# Altium schematic symbol library RaspComputeModule_4_IO.SCHLIB: 40 symbols
Pins are listed as number, name and electrical type; pins without a type are passive.

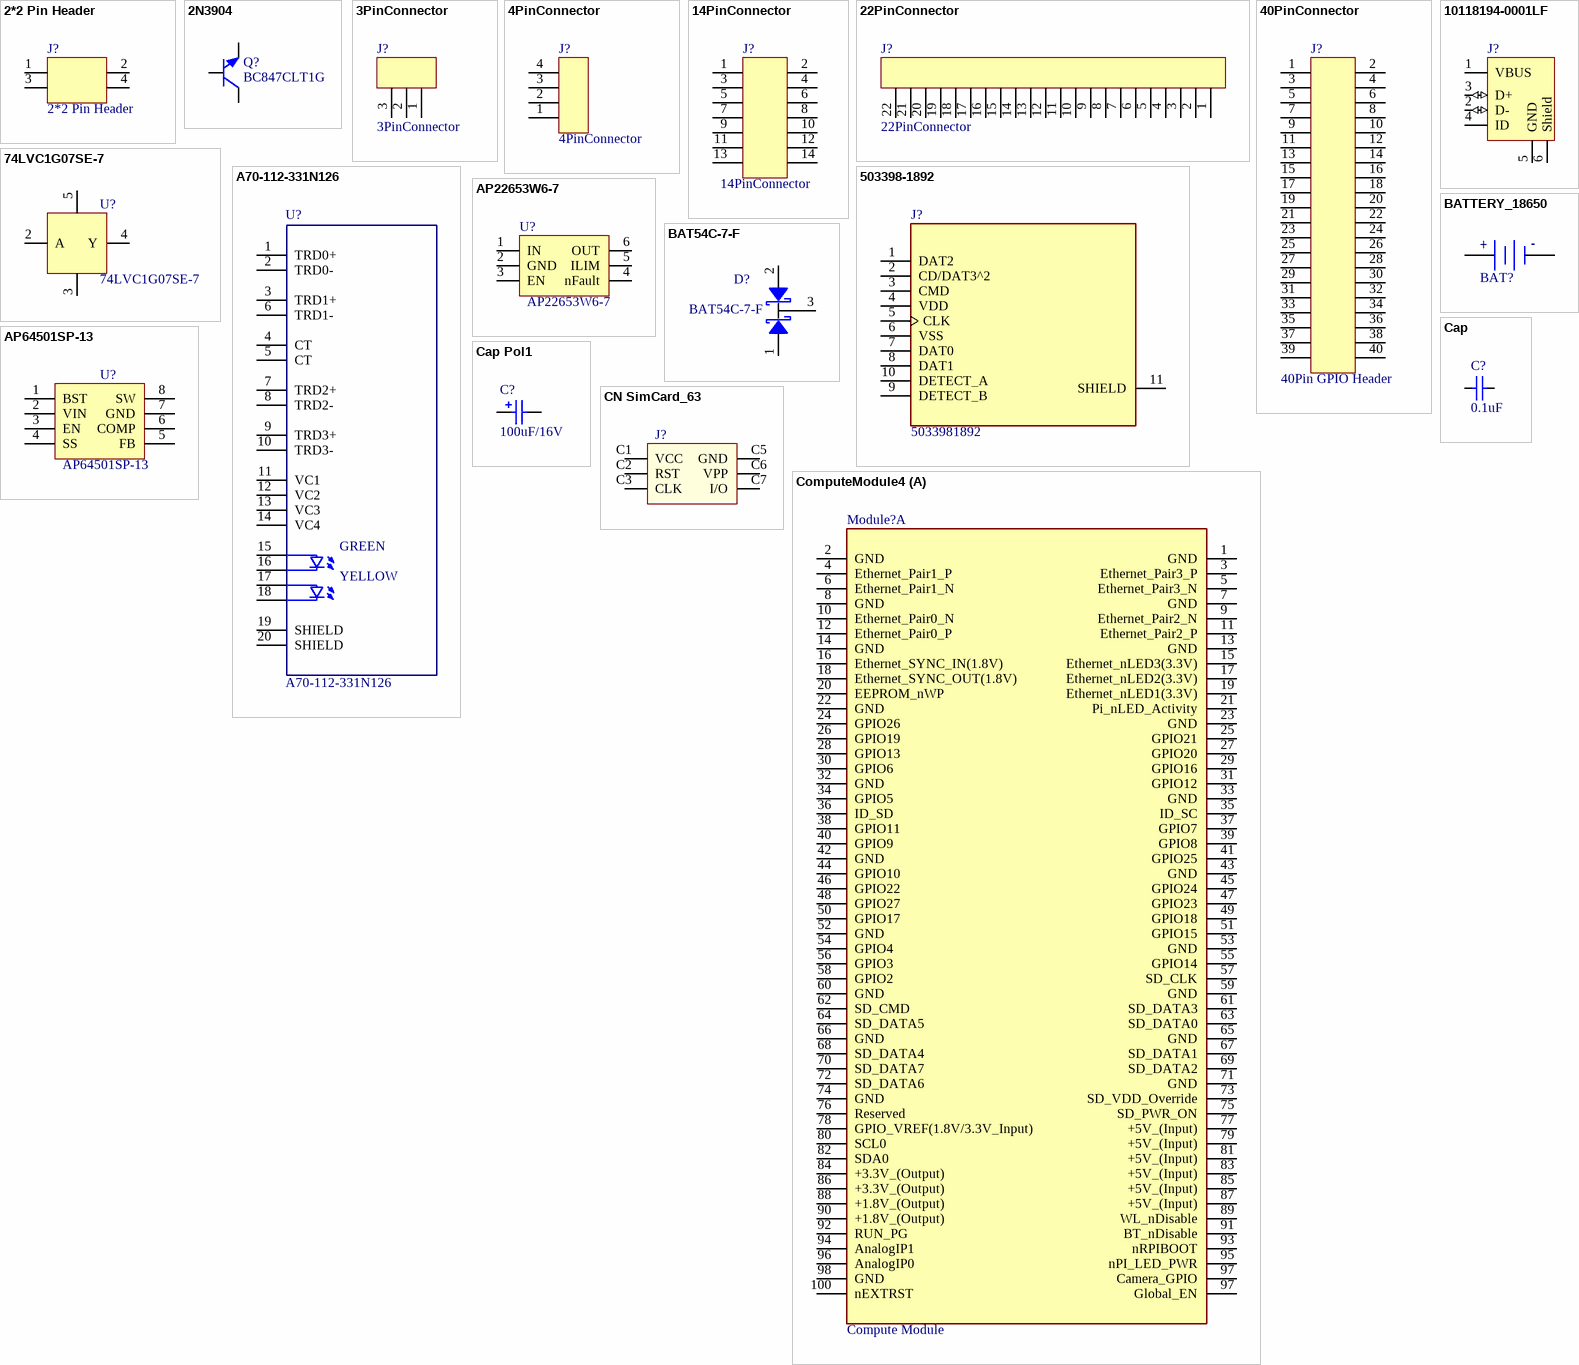
[diagram p0: symbols 2*2 Pin Header to ComputeModule4]

## 2*2 Pin Header
designator J?
footprint * (Footprint not found)
pins: 1, 2, 3, 4

## 2N3904
designator Q?, comment BC847CLT1G
TRANS NPN 45V 100MA SOT23-3; Manufacturer: ON Semiconductor; Supplier: Digi-Key; Manufacturer Part Number: BC847CLT1G; Supplier Part Number: BC847CLT1GOSCT-ND; Value: BC847CLT1G
footprint SOT23-3
pins: 1 B, 2 E, 3 C

## 3PinConnector
designator J?
footprint Header-10mm
pins: 1, 2, 3

## 4PinConnector
designator J?
footprint LQFP-32
pins: 1, 2, 3, 4

## 14PinConnector
designator J?
40PinConnector
footprint * (Footprint not found)
pins: 1, 2, 3, 4, 5, 6, 7, 8, 9, 10, 11, 12, 13, 14

## 22PinConnector
designator J?
Manufacturer: *; Manufacturer Part Number: *; Supplier: *; Supplier Part Number: *; Value: *
footprint * (Footprint not found)
pins: 1, 2, 3, 4, 5, 6, 7, 8, 9, 10, 11, 12, 13, 14, 15, 16, 17, 18, 19, 20, 21, 22

## 40PinConnector
designator J?, comment 40Pin GPIO Header
40PinConnector
footprint * (Footprint not found)
pins: 1, 2, 3, 4, 5, 6, 7, 8, 9, 10, 11, 12, 13, 14, 15, 16, 17, 18, 19, 20, 21, 22, 23, 24, 25, 26, 27, 28, 29, 30, 31, 32, 33, 34, 35, 36, 37, 38, 39, 40

## 74LVC1G07SE-7
designator U?
IC BUF NON-INVERT 5.5V SOT353; Manufacturer: Nexperia; Manufacturer Part Number: 74LVC1G07SE-7; Supplier: Diodes Incorporated; Supplier Part Number: 74LVC1G07SE-7DICT-ND; Value: 74LVC1G07SE-7
footprint SOT-353 (Footprint not found)
pins: 2 A, 3 GND, 4 Y, 5 VCC

## 503398-1892
designator J?, comment 5033981892
9 _8 + 1_ Position Card Connector microSDâ„¢ Surface Mount, Right Angle Gold; Manufacturer: Molex; Manufacturer Part Number: 5033981892; Supplier Part Number: WM11190CT-ND; Value: 5033981892
footprint MOLEX_503398-1892
pins: 1 DAT2, 2 CD/DAT3^2, 3 CMD, 4 VDD (power), 5 CLK, 6 VSS (power), 7 DAT0, 8 DAT1, 9 DETECT_B (power), 10 DETECT_A, 11 SHIELD

## 10118194-0001LF
designator J?  (value not drawn)
CONN RCPT USB2.0 MICRO B SMD R/A; Manufacturer: Amphenol FCI; Supplier Part Number: 609-4618-1-ND; Manufacturer Part Number: 10118194-0001LF; Value: 10118194-0001LF; Supplier: Digi-Key
footprint 10118194-0001LF (CONN USB MICRO B RECPT SMT R/A)
pins: 1 VBUS (power), 2 D- (io), 3 D+ (io), 4 ID, 5 GND (power), 6 Shield

## A70-112-331N126
designator U?
RJ45 MAGNETIC JACK WITH LED; Manufacturer: EDAC; Value: A70-112-331N126; Manufacturer Part Number: A70-112-331N126
footprint EDAC_A70-112-331N126
pins: 1 TRD0+, 2 TRD0-, 3 TRD1+, 4 CT, 5 CT, 6 TRD1-, 7 TRD2+, 8 TRD2-, 9 TRD3+, 10 TRD3-, 11 VC1, 12 VC2, 13 VC3, 14 VC4, 15 G_A, 16 G_K, 17 Y_A, 18 Y_K, 19 SHIELD, 20 SHIELD
text: GREEN; YELLOW

## AP22653W6-7
designator U?
LOAD SWITCH,SOT26,T&R,3K; Manufacturer: Diodes Incorporated; Manufacturer Part Number: AP22653W6-7; Supplier: Digi-Key; Supplier Part Number: 31-AP22653W6-7CT-ND; Value: AP22653W6-7
footprint * (Footprint not found)
pins: 1 IN, 2 GND, 3 EN, 4 nFault, 5 ILIM, 6 OUT

## AP64501SP-13
designator U?
DCDC CONV HV BUCK SO-8EP; Manufacturer: Diodes Incorporated; Manufacturer Part Number: AP64501SP-13; Supplier: Digi-Key; Supplier Part Number: 31-AP64501SP-13CT-ND; Value: AP64501SP-13
footprint * (Footprint not found)
pins: 1 BST, 2 VIN, 3 EN, 4 SS, 5 FB, 6 COMP, 7 GND, 8 SW

## BAT54C-7-F
designator D?
Schottky Rectifier; Value: BAT54C-7-F; Manufacturer Part Number: BAT54C-7-F
footprint * (Footprint not found)
pins: 1, 2, 3

## BATTERY_18650
designator BAT?, comment 0532610271  (value not drawn)
CONN HEADER SMD R/A 2POS 1.25MM; Manufacturer: Molex; Manufacturer Part Number: 0532610271; Supplier: Digi-Key; Supplier Part Number: WM7620CT-ND; Value: 0532610271
footprint MPD-CN-DIN-3_V (CN-DIN, 3-Leads, Body 21.08x15.24mm)
pins: 1 -, 2 +

## Cap
designator C?, comment 0.1uF
Manufacturer: Yageo; Supplier: Digi-Key; Value: 0.1uF
footprint C_0402_1005Metric
simulation model CAP (Capacitor)
signal-integrity model Cap
pins: 1, 2

## Cap Pol1
designator C?, comment 100uF/16V
Manufacturer: Nichicon; Supplier: Digi-Key; Value: 100uF/16V
footprint * (Footprint not found)
pins: 1, 2
1 alternate drawing of the same symbol

## CN SimCard_63
designator J?, comment 78646-3001  (value not drawn)
CN SimCard_63; Value: *
footprint 78646-3001
pins: C1 VCC, C2 RST, C3 CLK, C5 GND, C6 VPP, C7 I/O

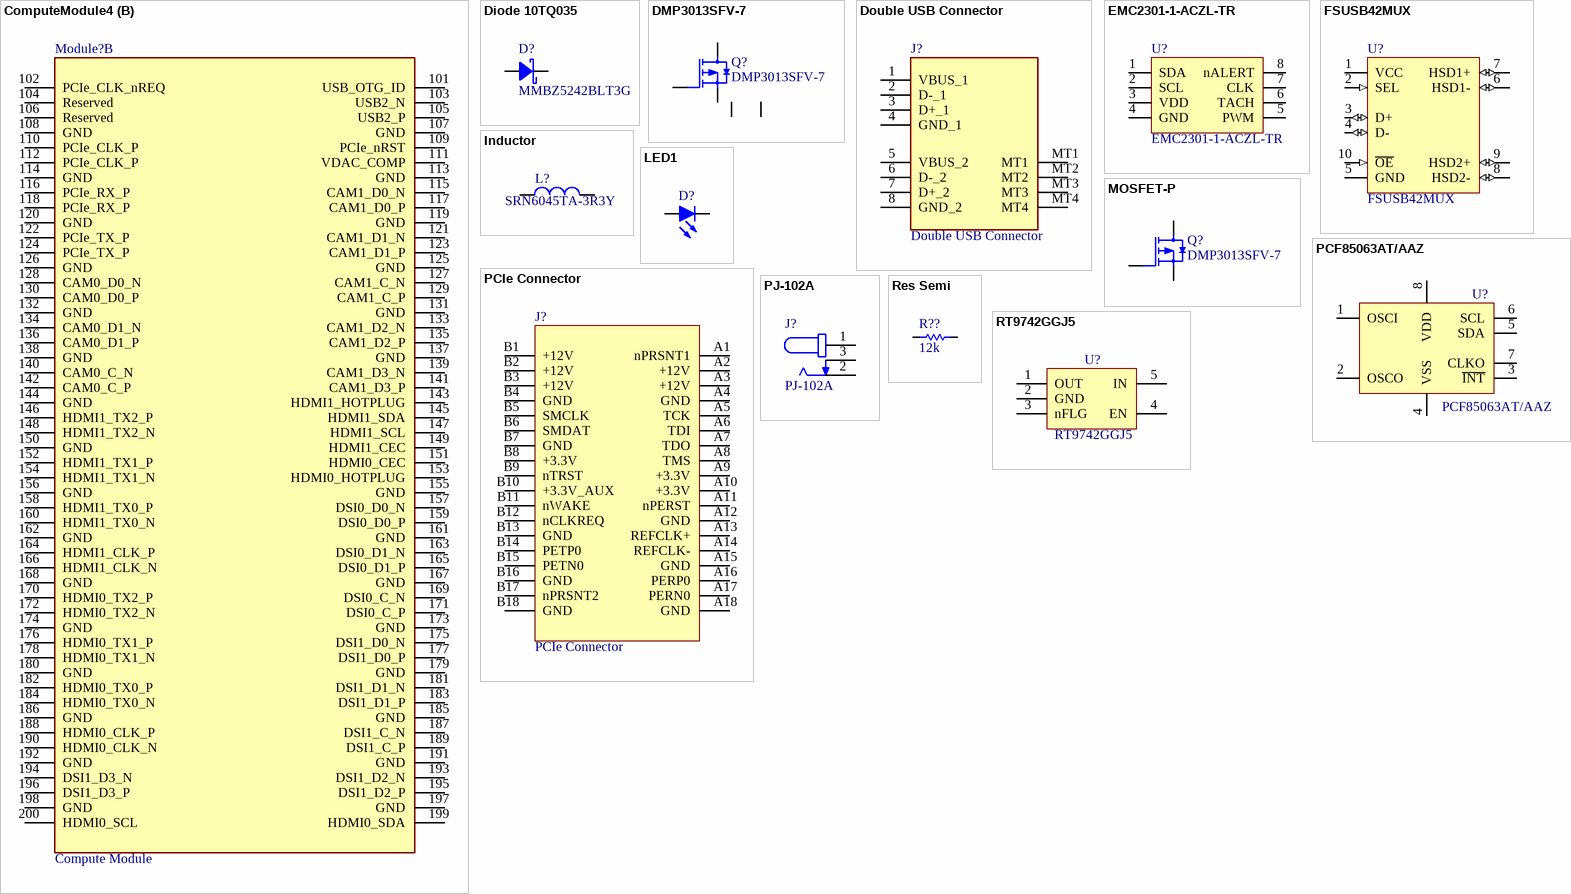
[diagram p1: symbols ComputeModule4 to RT9742GGJ5]

## ComputeModule4
designator Module?, comment Compute Module
ComputeModule4; Value: Compute Module
footprint * (Footprint not found)
part A pins: 1 GND (power), 2 GND (power), 3 Ethernet_Pair3_P (power), 4 Ethernet_Pair1_P (power), 5 Ethernet_Pair3_N (power), 6 Ethernet_Pair1_N (power), 7 GND (power), 8 GND (power), 9 Ethernet_Pair2_N (power), 10 Ethernet_Pair0_N (power), 11 Ethernet_Pair2_P (power), 12 Ethernet_Pair0_P (power), 13 GND (power), 14 GND (power), 15 Ethernet_nLED3(3.3V) (power), 16 Ethernet_SYNC_IN(1.8V) (power), 17 Ethernet_nLED2(3.3V) (power), 18 Ethernet_SYNC_OUT(1.8V) (power), 19 Ethernet_nLED1(3.3V) (power), 20 EEPROM_nWP (power), 21 Pi_nLED_Activity (power), 22 GND (power), 23 GND (power), 24 GPIO26 (power), 25 GPIO21 (power), 26 GPIO19 (power), 27 GPIO20 (power), 28 GPIO13 (power), 29 GPIO16 (power), 30 GPIO6 (power), 31 GPIO12 (power), 32 GND (power), 33 GND (power), 34 GPIO5 (power), 35 ID_SC (power), 36 ID_SD (power), 37 GPIO7 (power), 38 GPIO11 (power), 39 GPIO8 (power), 40 GPIO9 (power), 41 GPIO25 (power), 42 GND (power), 43 GND (power), 44 GPIO10 (power), 45 GPIO24 (power), 46 GPIO22 (power), 47 GPIO23 (power), 48 GPIO27 (power), 49 GPIO18 (power), 50 GPIO17 (power), 51 GPIO15 (power), 52 GND (power), 53 GND (power), 54 GPIO4 (power), 55 GPIO14 (power), 56 GPIO3 (power), 57 SD_CLK (power), 58 GPIO2 (power), 59 GND (power), 60 GND (power), 61 SD_DATA3 (power), 62 SD_CMD (power), 63 SD_DATA0 (power), 64 SD_DATA5 (power), 65 GND (power), 66 GND (power), 67 SD_DATA1 (power), 68 SD_DATA4 (power), 69 SD_DATA2 (power), 70 SD_DATA7 (power), 71 GND (power), 72 SD_DATA6 (power), 73 SD_VDD_Override (power), 74 GND (power), 75 SD_PWR_ON (power), 76 Reserved (power), 77 +5V_(Input) (power), 78 GPIO_VREF(1.8V/3.3V_Input) (power), 79 +5V_(Input) (power), 80 SCL0 (power), 81 +5V_(Input) (power), 82 SDA0 (power), 83 +5V_(Input) (power), 84 +3.3V_(Output) (power), 85 +5V_(Input) (power), 86 +3.3V_(Output) (power), 87 +5V_(Input) (power), 88 +1.8V_(Output) (power), 89 WL_nDisable (power), 90 +1.8V_(Output) (power), 91 BT_nDisable (power), 92 RUN_PG (power), 93 nRPIBOOT (power), 94 AnalogIP1 (power), 95 nPI_LED_PWR (power), 96 AnalogIP0 (power), 97 Camera_GPIO (power), 97 Global_EN (power), 98 GND (power), 100 nEXTRST (power)
part B pins: 101 USB_OTG_ID (power), 102 PCIe_CLK_nREQ (power), 103 USB2_N (power), 104 Reserved (power), 105 USB2_P (power), 106 Reserved (power), 107 GND (power), 108 GND (power), 109 PCIe_nRST (power), 110 PCIe_CLK_P (power), 111 VDAC_COMP (power), 112 PCIe_CLK_P (power), 113 GND (power), 114 GND (power), 115 CAM1_D0_N (power), 116 PCIe_RX_P (power), 117 CAM1_D0_P (power), 118 PCIe_RX_P (power), 119 GND (power), 120 GND (power), 121 CAM1_D1_N (power), 122 PCIe_TX_P (power), 123 CAM1_D1_P (power), 124 PCIe_TX_P (power), 125 GND (power), 126 GND (power), 127 CAM1_C_N (power), 128 CAM0_D0_N (power), 129 CAM1_C_P (power), 130 CAM0_D0_P (power), 131 GND (power), 132 GND (power), 133 CAM1_D2_N (power), 134 CAM0_D1_N (power), 135 CAM1_D2_P (power), 136 CAM0_D1_P (power), 137 GND (power), 138 GND (power), 139 CAM1_D3_N (power), 140 CAM0_C_N (power), 141 CAM1_D3_P (power), 142 CAM0_C_P (power), 143 HDMI1_HOTPLUG (power), 144 GND (power), 145 HDMI1_SDA (power), 146 HDMI1_TX2_P (power), 147 HDMI1_SCL (power), 148 HDMI1_TX2_N (power), 149 HDMI1_CEC (power), 150 GND (power), 151 HDMI0_CEC (power), 152 HDMI1_TX1_P (power), 153 HDMI0_HOTPLUG (power), 154 HDMI1_TX1_N (power), 155 GND (power), 156 GND (power), 157 DSI0_D0_N (power), 158 HDMI1_TX0_P (power), 159 DSI0_D0_P (power), 160 HDMI1_TX0_N (power), 161 GND (power), 162 GND (power), 163 DSI0_D1_N (power), 164 HDMI1_CLK_P (power), 165 DSI0_D1_P (power), 166 HDMI1_CLK_N (power), 167 GND (power), 168 GND (power), 169 DSI0_C_N (power), 170 HDMI0_TX2_P (power), 171 DSI0_C_P (power), 172 HDMI0_TX2_N (power), 173 GND (power), 174 GND (power), 175 DSI1_D0_N (power), 176 HDMI0_TX1_P (power), 177 DSI1_D0_P (power), 178 HDMI0_TX1_N (power), 179 GND (power), 180 GND (power), 181 DSI1_D1_N (power), 182 HDMI0_TX0_P (power), 183 DSI1_D1_P (power), 184 HDMI0_TX0_N (power), 185 GND (power), 186 GND (power), 187 DSI1_C_N (power), 188 HDMI0_CLK_P (power), 189 DSI1_C_P (power), 190 HDMI0_CLK_N (power), 191 GND (power), 192 GND (power), 193 DSI1_D2_N (power), 194 DSI1_D3_N (power), 195 DSI1_D2_P (power), 196 DSI1_D3_P (power), 197 GND (power), 198 GND (power), 199 HDMI0_SDA (power), 200 HDMI0_SCL (power)

## Diode 10TQ035
designator D?, comment MMBZ5242BLT3G
Value: MMBZ5242BLT3G; Manufacturer Part Number: MMBZ5242BLT3G; Supplier: Digi-Key
footprint * (Footprint not found)
pins: A, K

## DMP3013SFV-7
designator Q?
Manufacturer: Diodes Incorporated; Value: DMP3013SFV-7; Manufacturer Part Number: DMP3013SFV-7; Supplier: Digi-Key; Supplier Part Number: DMP3013SFV-7DICT-ND
footprint Diodes_PowerDI3333-8
pins: 1 S, 2 S, 3 S, 4 G, 5 D

## Double USB Connector
designator J?
CONN RCPT USB2.0 A STACKED PCB; Value: Double USB Connector
footprint * (Footprint not found)
pins: 1 VBUS_1, 2 D-_1, 3 D+_1, 4 GND_1, 5 VBUS_2, 6 D-_2, 7 D+_2, 8 GND_2, MT1, MT2, MT3, MT4

## EMC2301-1-ACZL-TR
designator U?
IC MOTOR DRIVER 3V-3.6V 8MSOP; Manufacturer: Microchip Technology; Manufacturer Part Number: EMC2301-1-ACZL-TR; Supplier: Digi-Key; Supplier Part Number: EMC2301-1-ACZL-CT-ND; Value: EMC2301-1-ACZL-TR
footprint * (Footprint not found)
pins: 1 SDA, 2 SCL, 3 VDD, 4 GND, 5 PWM, 6 TACH, 7 CLK, 8 nALERT

## FSUSB42MUX
designator U?
USB Switch IC 1 Channel 10-MSOP; Manufacturer: ON Semiconductor; Supplier Part Number: FSUSB42MUXCT-ND; Value: FSUSB42MUX; Supplier: Digi-Key; Manufacturer Part Number: FSUSB42MUX
footprint SOP50P490X110-10N
pins: 1 VCC (power), 2 SEL (in), 3 D+ (io), 4 D- (io), 5 GND (power), 6 HSD1- (io), 7 HSD1+ (io), 8 HSD2- (io), 9 HSD2+ (io), 10 ~{OE} (in)

## Inductor
designator L?, comment SRN6045TA-3R3Y
Value: SRN6045TA-3R3Y; Supplier: Digi-Key
footprint * (Footprint not found)
footprint INDC1608L (Chip Inductor, Body 1.6x0.8mm, IPC High Density)
footprint 2029 (Chip Inductor, Body 2.0x1.2mm, IPC High Density)
footprint 0603 (Chip Inductor, Body 0.6x0.3mm, IPC High Density)
footprint INDC3216 (Chip Inductor, Body 3.2x1.6mm, IPC High Density)
footprint INDC4532 (Chip Inductor, Body 4.5x3.2mm, IPC High Density)
pins: 1, 2

## LED1
designator D?, comment SML-D12U1WT86  (value not drawn)
Typical RED GaAs LED; Manufacturer: Rohm Semiconductor; Supplier: Digi-Key; Supplier Part Number: SML-D12U1WT86CT-ND; Manufacturer Part Number: SML-D12U1WT86; Value: SML-D12U1WT86
footprint SMD_LED(0603)
footprint SMD_LED(0603)
pins: 1 A, 2 K

## MOSFET-P
designator Q?, comment DMP3013SFV-7
Manufacturer: Diodes Incorporated; Value: DMP3013SFV-7; Manufacturer Part Number: DMP3013SFV-7; Supplier: Digi-Key; Supplier Part Number: DMP3013SFV-7DICT-ND
footprint Diodes_PowerDI3333-8
pins: 1 G, 2 S, 3 D

## PCF85063AT/AAZ
designator U?
IC RTC CLK/CALENDAR I2C 8SOIC; Manufacturer Part Number: PCF85063AT/AAZ; Supplier: Digi-Key; Value: PCF85063AT/AAZ
footprint * (Footprint not found)
pins: 1 OSCI, 2 OSCO, 3 ~{INT}, 4 VSS, 5 SDA, 6 SCL, 7 CLKO, 8 VDD

## PCIe Connector
designator J?
footprint * (Footprint not found)
pins: A1 nPRSNT1, A2 +12V, A3 +12V, A4 GND, A5 TCK, A6 TDI, A7 TDO, A8 TMS, A9 +3.3V, A10 +3.3V, A11 nPERST, A12 GND, A13 REFCLK+, A14 REFCLK-, A15 GND, A16 PERP0, A17 PERN0, A18 GND, B1 +12V, B2 +12V, B3 +12V, B4 GND, B5 SMCLK, B6 SMDAT, B7 GND, B8 +3.3V, B9 nTRST, B10 +3.3V_AUX, B11 nWAKE, B12 nCLKREQ, B13 GND, B14 PETP0, B15 PETN0, B16 GND, B17 nPRSNT2, B18 GND

## PJ-102A
designator J?
CONN PWR JACK 2X5.5MM SOLDER; Manufacturer: CUI Devices; Manufacturer Part Number: PJ-102A; Value: PJ-102A; Supplier: Digi-Key; Supplier Part Number: CP-102A-ND
footprint CUI_PJ-102A
pins: 1, 2, 3

## Res Semi
designator R??, comment 12k
12 kOhms ±1% 0.1W; Manufacturer: Yageo; Manufacturer Part Number: RC0603FR-0712KL; Value: 12k; Supplier: Digi-Key; Supplier Part Number: 311-12KHRCT-ND
footprint SMD_R(0603)
pins: 1, 2

## RT9742GGJ5
designator U?
IC PWR SWTCH N-CHAN 1:1 TSOT23-5; Manufacturer: Richtek USA Inc.; Manufacturer Part Number: RT9742GGJ5; Supplier: Digi-Key; Supplier Part Number: 1028-1436-1-ND; Value: RT9742GGJ5
footprint * (Footprint not found)
pins: 1 OUT, 2 GND, 3 nFLG, 4 EN, 5 IN

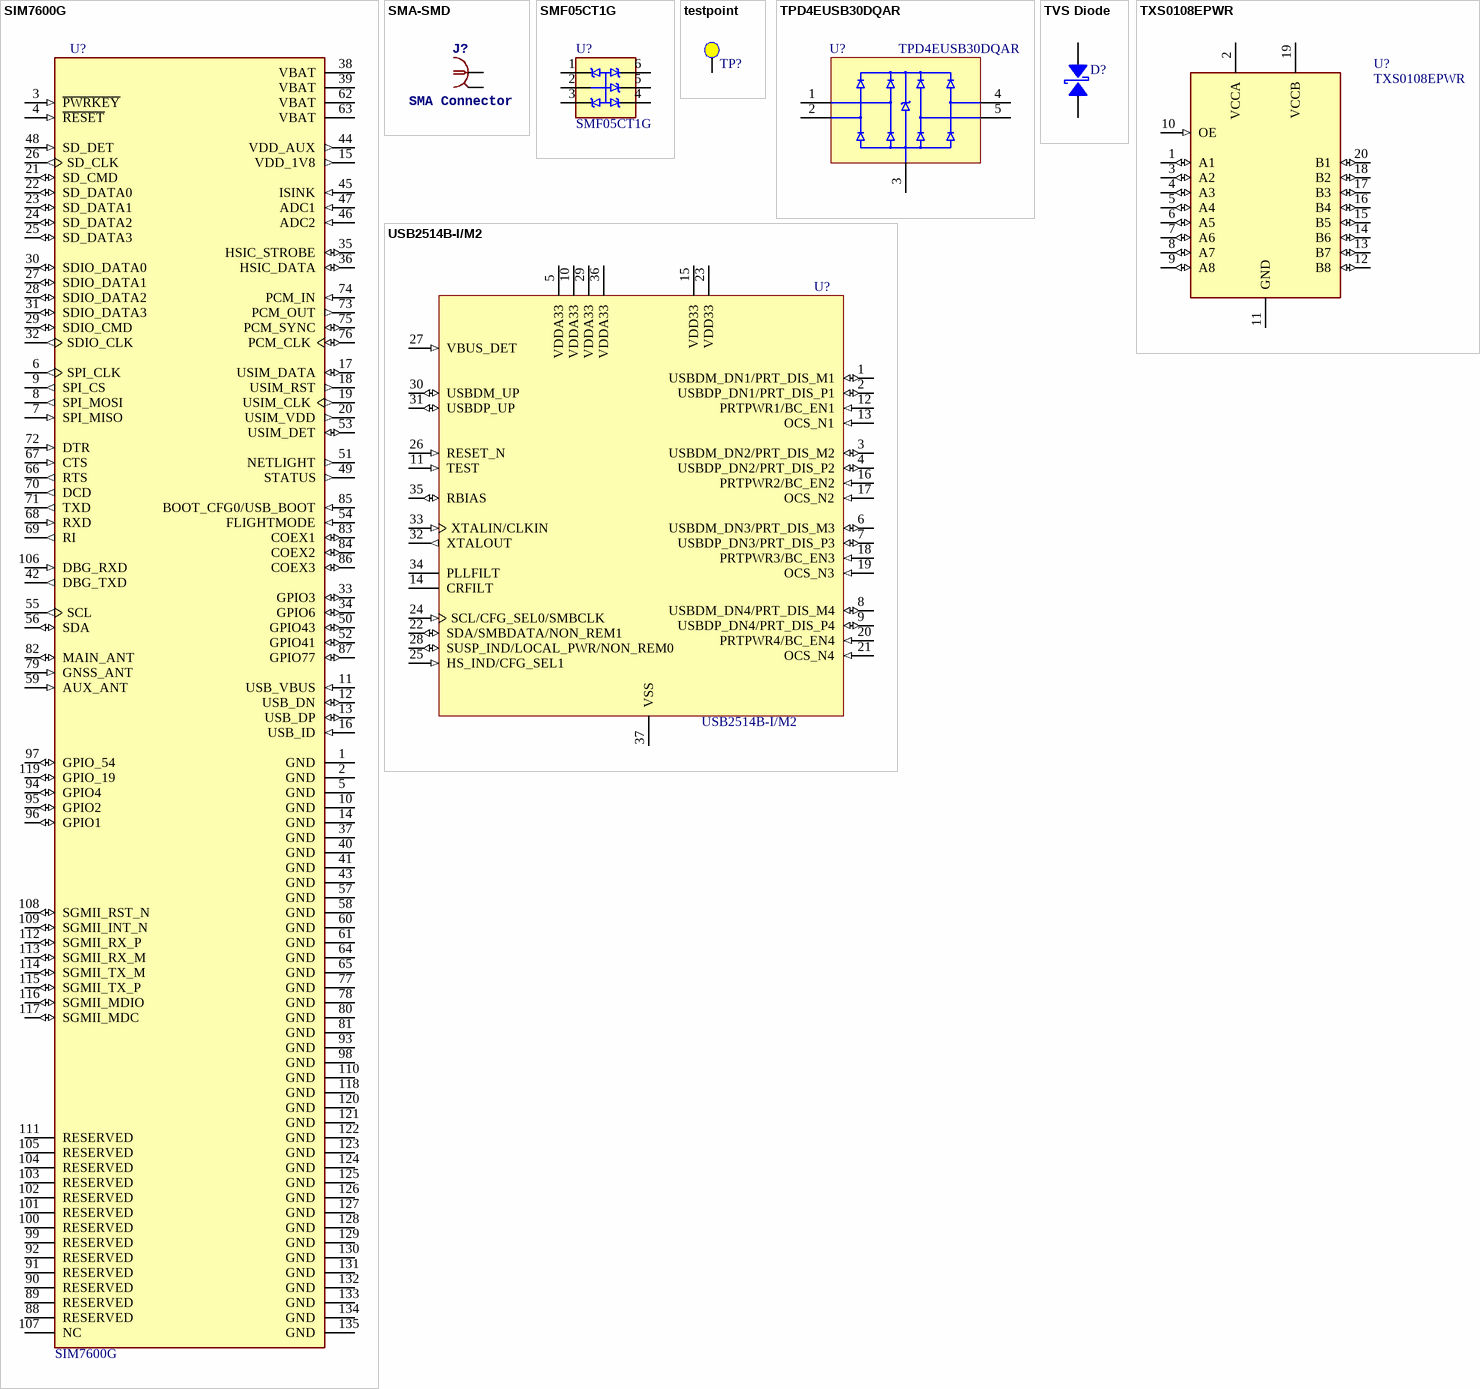
[diagram p2: symbols SIM7600G to USB2514B-I/M2]

## SIM7600G
designator U?
LTE Cat-4 Module; Manufacturer: Simcom; Value: SIM7600G-H; Supplier Part Number: None; Manufacturer Part Number: SIM7600G-H
footprint IC_SIM7600G (Footprint not found)
pins: 1 GND (power), 2 GND (power), 3 ~{PWRKEY} (in), 4 ~{RESET} (in), 5 GND (power), 6 SPI_CLK (out), 7 SPI_MISO (in), 8 SPI_MOSI (out), 9 SPI_CS (out), 10 GND (power), 11 USB_VBUS (in), 12 USB_DN (io), 13 USB_DP (io), 14 GND (power), 15 VDD_1V8 (out), 16 USB_ID (in), 17 USIM_DATA (io), 18 USIM_RST (out), 19 USIM_CLK (out), 20 USIM_VDD (out), 21 SD_CMD (io), 22 SD_DATA0 (io), 23 SD_DATA1 (io), 24 SD_DATA2 (io), 25 SD_DATA3 (io), 26 SD_CLK (out), 27 SDIO_DATA1 (io), 28 SDIO_DATA2 (io), 29 SDIO_CMD (io), 30 SDIO_DATA0 (io), 31 SDIO_DATA3 (io), 32 SDIO_CLK (out), 33 GPIO3 (io), 34 GPIO6 (io), 35 HSIC_STROBE (io), 36 HSIC_DATA (io), 37 GND (power), 38 VBAT (power), 39 VBAT (power), 40 GND (power), 41 GND (power), 42 DBG_TXD (out), 43 GND (power), 44 VDD_AUX (out), 45 ISINK (in), 46 ADC2 (in), 47 ADC1 (in), 48 SD_DET (in), 49 STATUS (out), 50 GPIO43 (io), 51 NETLIGHT (out), 52 GPIO41 (io), 53 USIM_DET (io), 54 FLIGHTMODE (in), 55 SCL (out), 56 SDA (io), 57 GND (power), 58 GND (power), 59 AUX_ANT (in), 60 GND (power), 61 GND (power), 62 VBAT (power), 63 VBAT (power), 64 GND (power), 65 GND (power), 66 RTS (out), 67 CTS (in), 68 RXD (in), 69 RI (out), 70 DCD (out), 71 TXD (out), 72 DTR (in), 73 PCM_OUT (out), 74 PCM_IN (in), 75 PCM_SYNC (io), 76 PCM_CLK (io), 77 GND (power), 78 GND (power), 79 GNSS_ANT (in), 80 GND (power), 81 GND (power), 82 MAIN_ANT (io), 83 COEX1 (io), 84 COEX2 (io), 85 BOOT_CFG0/USB_BOOT (in), 86 COEX3 (io), 87 GPIO77 (io), 88 RESERVED, 89 RESERVED, 90 RESERVED, 91 RESERVED, 92 RESERVED, 93 GND (power), 94 GPIO4 (io), 95 GPIO2 (io), 96 GPIO1 (io), 97 GPIO_54 (io), 98 GND (power), 99 RESERVED, 100 RESERVED, 101 RESERVED, 102 RESERVED, 103 RESERVED, 104 RESERVED, 105 RESERVED, 106 DBG_RXD (in), 107 NC, 108 SGMII_RST_N (io), 109 SGMII_INT_N (io), 110 GND (power), 111 RESERVED, 112 SGMII_RX_P (io), 113 SGMII_RX_M (io), 114 SGMII_TX_M (io), 115 SGMII_TX_P (io), 116 SGMII_MDIO (io), 117 SGMII_MDC (io), 118 GND (power), 119 GPIO_19 (io), 120 GND (power), 121 GND (power), 122 GND (power), 123 GND (power), 124 GND (power), 125 GND (power), 126 GND (power), 127 GND (power), 128 GND (power), 129 GND (power), 130 GND (power), 131 GND (power), 132 GND (power), 133 GND (power), 134 GND (power), 135 GND (power)

## SMA-SMD
designator J?, comment SMA Connector
CONN SMA JACK STR EDGE MNT; Manufacturer: RF Solution; Manufacturer Part Number: CON-SMA-EDGE-S
footprint CON-SMA-EDGE-S
pins: 1, 2 GND (power)

## SMF05CT1G
designator U?
12.5V Clamp 8A _8/20Âµs_ Ipp Tvs Diode Surface Mount SC-88/SC70-6/SOT-363; Manufacturer: ON Semiconductor; Manufacturer Part Number: SMF05CT1G; Value: SMF05CT1G
footprint SOT-363
pins: 1 C1, 2 A, 3 C2, 4 C3, 5 C4, 6 C5

## testpoint
designator TP?  (value not drawn)
footprint testpoint
pins: 1

## TPD4EUSB30DQAR
designator U?
TVS DIODE 5.5V 8V 10USON; MF: Texas Instruments; Supplier Part Number: 296-28063-1-ND; Supplier: Digi-Key; MP: TPD4EUSB30DQAR; Value: TPD4EUSB30DQAR
footprint * (Footprint not found)
pins: 1 D1+, 2 D1-, 3 GND_3 (power), 4 D2+, 5 D2-, 6 NC_6, 7 NC_7, 8 GND_8 (power), 9 NC_9, 10 NC_10

## TVS Diode
designator D?
TVS Diode
footprint TO-277A
pins: 1, 2

## TXS0108EPWR
designator U?
8-Bit Bidirectional Voltage-Level Shifter For Open-Drain And Push-Pull Application; Manufacturer: Texas Instruments; Value: TXS0108EPWR; Manufacturer Part Number: TXS0108EPWR
footprint SOP65P640X120-20N
pins: 1 A1 (io), 2 VCCA (power), 3 A2 (io), 4 A3 (io), 5 A4 (io), 6 A5 (io), 7 A6 (io), 8 A7 (io), 9 A8 (io), 10 OE (in), 11 GND (power), 12 B8 (io), 13 B7 (io), 14 B6 (io), 15 B5 (io), 16 B4 (io), 17 B3 (io), 18 B2 (io), 19 VCCB (power), 20 B1 (io)

## USB2514B-I/M2
designator U?
USB Hub Controller USB Interface 36-SQFN _6x6_; Manufacturer: Microchip; Manufacturer Part Number: USB2514B-I/M2; Supplier Part Number: Digi-Key; Supplier: Digi-Key; Value: USB2514B-I/M2
footprint QFN50P600X600X100-37N
pins: 1 USBDM_DN1/PRT_DIS_M1 (io), 2 USBDP_DN1/PRT_DIS_P1 (io), 3 USBDM_DN2/PRT_DIS_M2 (io), 4 USBDP_DN2/PRT_DIS_P2 (io), 5 VDDA33 (power), 6 USBDM_DN3/PRT_DIS_M3 (io), 7 USBDP_DN3/PRT_DIS_P3 (io), 8 USBDM_DN4/PRT_DIS_M4 (io), 9 USBDP_DN4/PRT_DIS_P4 (io), 10 VDDA33 (power), 11 TEST (in), 12 PRTPWR1/BC_EN1 (in), 13 OCS_N1 (in), 14 CRFILT, 15 VDD33 (power), 16 PRTPWR2/BC_EN2 (in), 17 OCS_N2 (in), 18 PRTPWR3/BC_EN3 (in), 19 OCS_N3 (in), 20 PRTPWR4/BC_EN4 (in), 21 OCS_N4 (in), 22 SDA/SMBDATA/NON_REM1 (io), 23 VDD33 (power), 24 SCL/CFG_SEL0/SMBCLK (in), 25 HS_IND/CFG_SEL1 (in), 26 RESET_N (in), 27 VBUS_DET (in), 28 SUSP_IND/LOCAL_PWR/NON_REM0 (io), 29 VDDA33 (power), 30 USBDM_UP (io), 31 USBDP_UP (io), 32 XTALOUT (out), 33 XTALIN/CLKIN (in), 34 PLLFILT, 35 RBIAS (io), 36 VDDA33 (power), 37 VSS (power)